# Altium footprint library YG223_V1.6.PcbLib: 16 footprints
Each footprint in its own frame and in the unit in brackets; x right, y up, seen from the top. Pads: shape width x height; smd on the part's side, far side on the other; paste and mask are expansions set on the pad; w line width, h text height; cw(c..) or ccw(c..) is an arc to the next point about the centre after c.
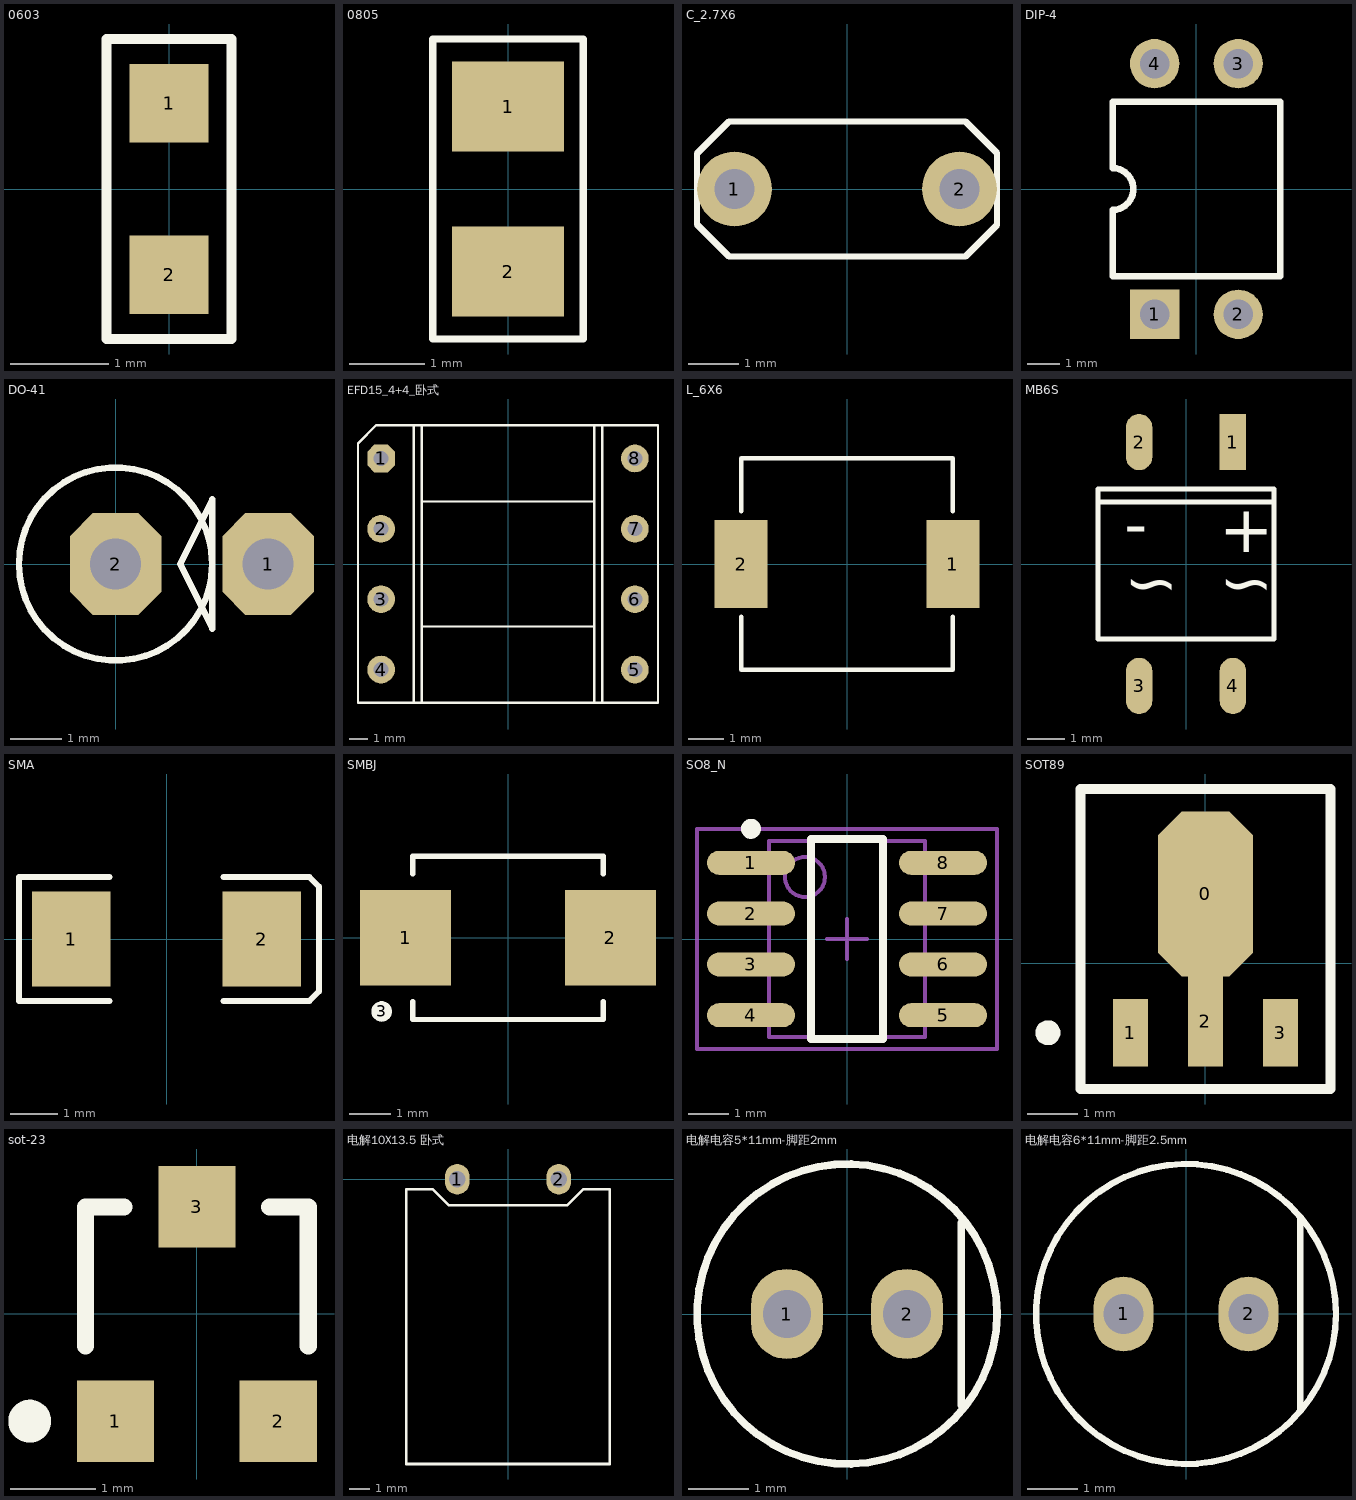
[diagram p0: the footprints below, top view; thin cyan lines are the x and y axes]

## 0603 [mm]
pads (2):
  rect 0.8x0.8 smd: 1(0,0.87) 2(0,-0.87)
Top Overlay:
  lines w0.1: -0.635,-1.524 0.635,-1.524 0.635,1.524 -0.635,1.524 -0.635,-1.524

## 0805 [mm]
height 9.6
pads (2):
  rect 1.5x1.2 smd: 1(0,1.1) 2(0,-1.1)
Top Overlay:
  lines w0.1: -1,-2 -1,2 1,2 1,-2 -1,-2

## C_2.7X6 [mm]
pads (2):
  round 1.5 hole 0.8: 1(-2.25,0) 2(2.25,0)
Top Overlay:
  lines w0.127: -3,-0.71 -3,0.71 -2.36,1.35 2.37,1.35 3,0.72 3,-0.72 2.37,-1.35 -2.36,-1.35 -3,-0.71

## DIP-4 [mm] "DIP; 4 Leads; Row Spacing 7.62 mm; Pitch 2.54 mm"
height 5.6
pads (4):
  rect 1.5x1.5 hole 0.9: 1(-1.27,-3.81)
  round 1.5 hole 0.9: 2(1.27,-3.81) 3(1.27,3.81) 4(-1.27,3.81)
Top Overlay:
  lines w0.2: -2.55,-2.65 2.55,-2.65 2.55,2.65 -2.55,2.65 -2.55,0.635 cw(c-2.55,0) -2.55,-0.635 -2.55,-2.65

## DO-41 [mm]
pads (2):
  oct 1.8x2 hole 1: 1(3,0) 2(0,0)
Top Overlay:
  circle w0.127: c0,0 r1.9
  lines w0.127: 1.27,0 1.905,1.27 1.905,-1.27 1.27,0

## EFD15_4+4_卧式 [mm]
height 9.5
pads (8):
  oct 1.5x1.5 hole 0.8: 1(-6.85,5.7)
  round 1.5 hole 0.8: 2(-6.85,1.9) 3(-6.85,-1.9) 4(-6.85,-5.7) 5(6.85,-5.7) 6(6.85,-1.9) 7(6.85,1.9) 8(6.85,5.7)
Top Overlay:
  lines w0.127: -5.08,-7.5 -5.08,7.5 ; -4.65,-7.451 -4.65,7.451 ; -4.65,-3.375 4.65,-3.375 4.65,3.375 -4.65,3.375 ; 4.65,-7.451 4.65,7.451 ; 5.08,-7.5 5.08,7.5 ; -8.1,-7.5 -8.1,6.512 -7.112,7.5 8.1,7.5 8.1,-7.5 -8.1,-7.5

## L_6X6 [mm]
pads (2):
  rect 1.5x2.5 smd: 1(3,0) 2(-3,0)
Top Overlay:
  lines w0.127: -3,-1.5 -3,-3 3,-3 3,-1.5 ; -3,1.5 -3,3 3,3 3,1.5

## MB6S [mm]
pads (4):
  rect 0.7x1.5 smd: 1(1.25,3.25)
  oval 0.7x1.5 smd: 2(-1.25,3.25) 3(-1.25,-3.25) 4(1.25,-3.25)
Top Overlay:
  lines w0.127: -2.35,1.651 2.35,1.651 ; -2.35,-2 -2.35,2 2.35,2 2.35,-2 -2.35,-2
  text "+" at 0.889,1.397 h1.27
  text "-" at -1.651,1.397 h1.27
  text "~" at -1.651,0 h1.27
  text "~" at 0.889,0 h1.27

## SMA [mm]
height 9.6
pads (2):
  rect 1.65x2 smd: 1(-2,0) 2(2,0)
Top Overlay:
  lines w0.127: -1.2,-1.3 -3.1,-1.3 -3.1,1.3 -1.2,1.3 ; 1.2,-1.3 3,-1.3 3.2,-1.1 3.2,1.1 3,1.3 1.2,1.3

## SMBJ [mm]
height 2.45
pads (3):
  rect 2.2x2.3 smd: 1(-2.47,0) 2(2.47,0)
  round 0.5 on Top Overlay: 3(-3.048,-1.778)
Top Overlay:
  lines w0.127: -2.3,-1.538 -2.3,-1.97 2.3,-1.97 2.3,-1.538 ; -2.3,1.538 -2.3,1.97 2.3,1.97 2.3,1.538

## SO8_N [mm] "SOIC, 8-Leads, Body 4.9x3.9mm, Pitch 1.27mm, IPC Medium Density"
height 1.75
pads (8):
  oval 2.2x0.6 smd: 1(-2.4,1.905) 2(-2.4,0.635) 3(-2.4,-0.635) 4(-2.4,-1.905) 5(2.4,-1.905) 6(2.4,-0.635) 7(2.4,0.635) 8(2.4,1.905)
Top Overlay:
  circle w0.25: c-2.4,2.755 r0.125
  lines w0.2: -0.9,-2.5 0.9,-2.5 0.9,2.5 -0.9,2.5 -0.9,-2.5
Mechanical 13:
  circle w0.1: c-1.05,1.55 r0.5
  lines w0.1: -1.95,-2.45 1.95,-2.45 1.95,2.45 -1.95,2.45 -1.95,-2.45
Mechanical 15:
  lines w0.1: -0.5,0 0.5,0 ; 0,-0.5 0,0.5 ; -3.75,-2.75 3.75,-2.75 3.75,2.75 -3.75,2.75 -3.75,-2.75
3D body: height 1.75, standoff 0, extent -1.95,-2.45 1.95,2.45

## SOT89 [mm] "SOT-89; Body 4.6 x 4.25 mm, inc. leads (LxW max)"
height 1.6
pads (4):
  oct 1.9x3.3 smd: 0(0,1.388)
  rect 0.7x1.35 smd: 1(-1.5,-1.388) 3(1.5,-1.388)
  rect 0.7x1.8 smd: 2(0,-1.162)
Top Overlay:
  circle w0.25: c-3.15,-1.388 r0.125
  lines w0.2: -2.5,-2.512 2.5,-2.512 2.5,3.487 -2.5,3.487 -2.5,-2.512

## sot-23 [mm] "SOT-23; 3 Leads; Body 3.0 x 2.6 mm, inc. leads (LxW max)"
height 1.1
pads (3):
  rect 0.9x0.95 smd: 1(-0.95,-1.25) 2(0.95,-1.25) 3(0,1.25)
Top Overlay:
  circle w0.25: c-1.95,-1.25 r0.125
  lines w0.2: -1.3,-0.375 -1.3,1.25 -0.85,1.25 ; 0.85,1.25 1.3,1.25 1.3,-0.375

## 电解10X13.5 卧式 [mm]
height 10
pads (2):
  oval 1.2x1.5 hole 0.8: 1(-2.5,0) 2(2.5,0)
Top Overlay:
  lines w0.127: -5,-14 5,-14 5,-0.5 3.691,-0.5 2.921,-1.27 -2.921,-1.27 -3.691,-0.5 -5,-0.5 -5,-14

## 电解电容5*11mm-脚距2mm [mm]
height 11
pads (2):
  oval 1.2x1.5 hole 0.8: 1(-1,0) 2(1,0)
Top Overlay:
  circle w0.127: c0,0 r2.5
  lines w0.127: 1.905,-1.524 1.905,1.524

## 电解电容6*11mm-脚距2.5mm [mm]
height 11
pads (2):
  oval 1.2x1.5 hole 0.8: 1(-1.25,0) 2(1.25,0)
Top Overlay:
  circle w0.127: c0,0 r3
  lines w0.127: 2.286,-1.905 2.286,1.905